# Altium footprint library Conn_JST_B4B-PH-SM4-TB_LF_SN_eec_0.PcbLib: 1 footprints
Each footprint in its own frame and in the unit in brackets; x right, y up, seen from the top. Pads: shape width x height; smd on the part's side, far side on the other; paste and mask are expansions set on the pad; w line width, h text height; cw(c..) or ccw(c..) is an arc to the next point about the centre after c.
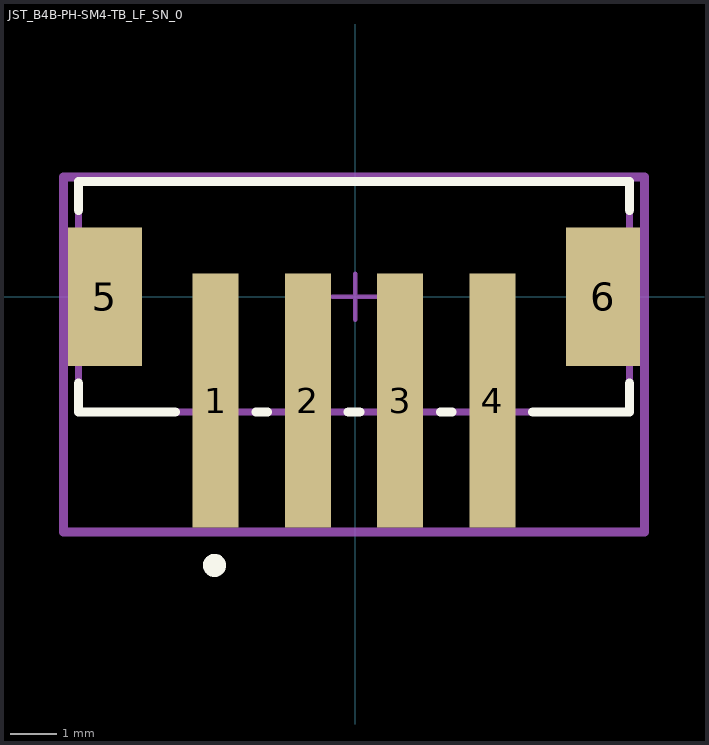
[diagram p0: the footprint, top view; thin cyan lines are the x and y axes]

## JST_B4B-PH-SM4-TB_LF_SN_0 [mm]
pads (6):
  rect 1x5.5 smd paste+0 mask+0: 1(-3.025,-2.25) 2(-1.025,-2.25) 3(0.975,-2.25) 4(2.975,-2.25)
  rect 1.6x3 smd paste+0 mask+0: 5(-5.425,0) 6(5.375,0)
Top Overlay:
  circle w0.25: c-3.05,-5.825 r0.125
  lines w0.2: -6,-1.875 -6,-2.5 -3.9,-2.5 ; -6,1.875 -6,2.5 5.95,2.5 5.95,1.875 ; -2.15,-2.5 -1.9,-2.5 ; -0.15,-2.5 0.1,-2.5 ; 1.85,-2.5 2.1,-2.5 ; 3.85,-2.5 5.95,-2.5 5.95,-1.875
Mechanical 10:
  lines w0.2: -6.325,-5.1 6.275,-5.1 6.275,2.6 -6.325,2.6 -6.325,-5.1
  text ".Designator" at -0.025,-1.25 h1
Mechanical 12:
  lines w0.15: -6,-2.5 5.95,-2.5 5.95,2.5 -6,2.5 -6,-2.5
Mechanical 15:
  lines w0.1: -0.5,0 0.5,0 ; 0,-0.5 0,0.5
  lines w0.2: -6.325,-5.1 6.275,-5.1 6.275,2.6 -6.325,2.6 -6.325,-5.1
3D body "Conn_JST_B4B-PH-SM4-TB_LF_SN_eec.STEP": height 0.25, standoff 0, extent -6.325,-5.1 6.275,2.6